# Altium footprint library Own_lib.PcbLib: 52 footprints (part 3 of 4)
Each footprint in its own frame and in the unit in brackets; x right, y up, seen from the top. Pads: shape width x height; smd on the part's side, far side on the other; paste and mask are expansions set on the pad; w line width, h text height; cw(c..) or ccw(c..) is an arc to the next point about the centre after c.
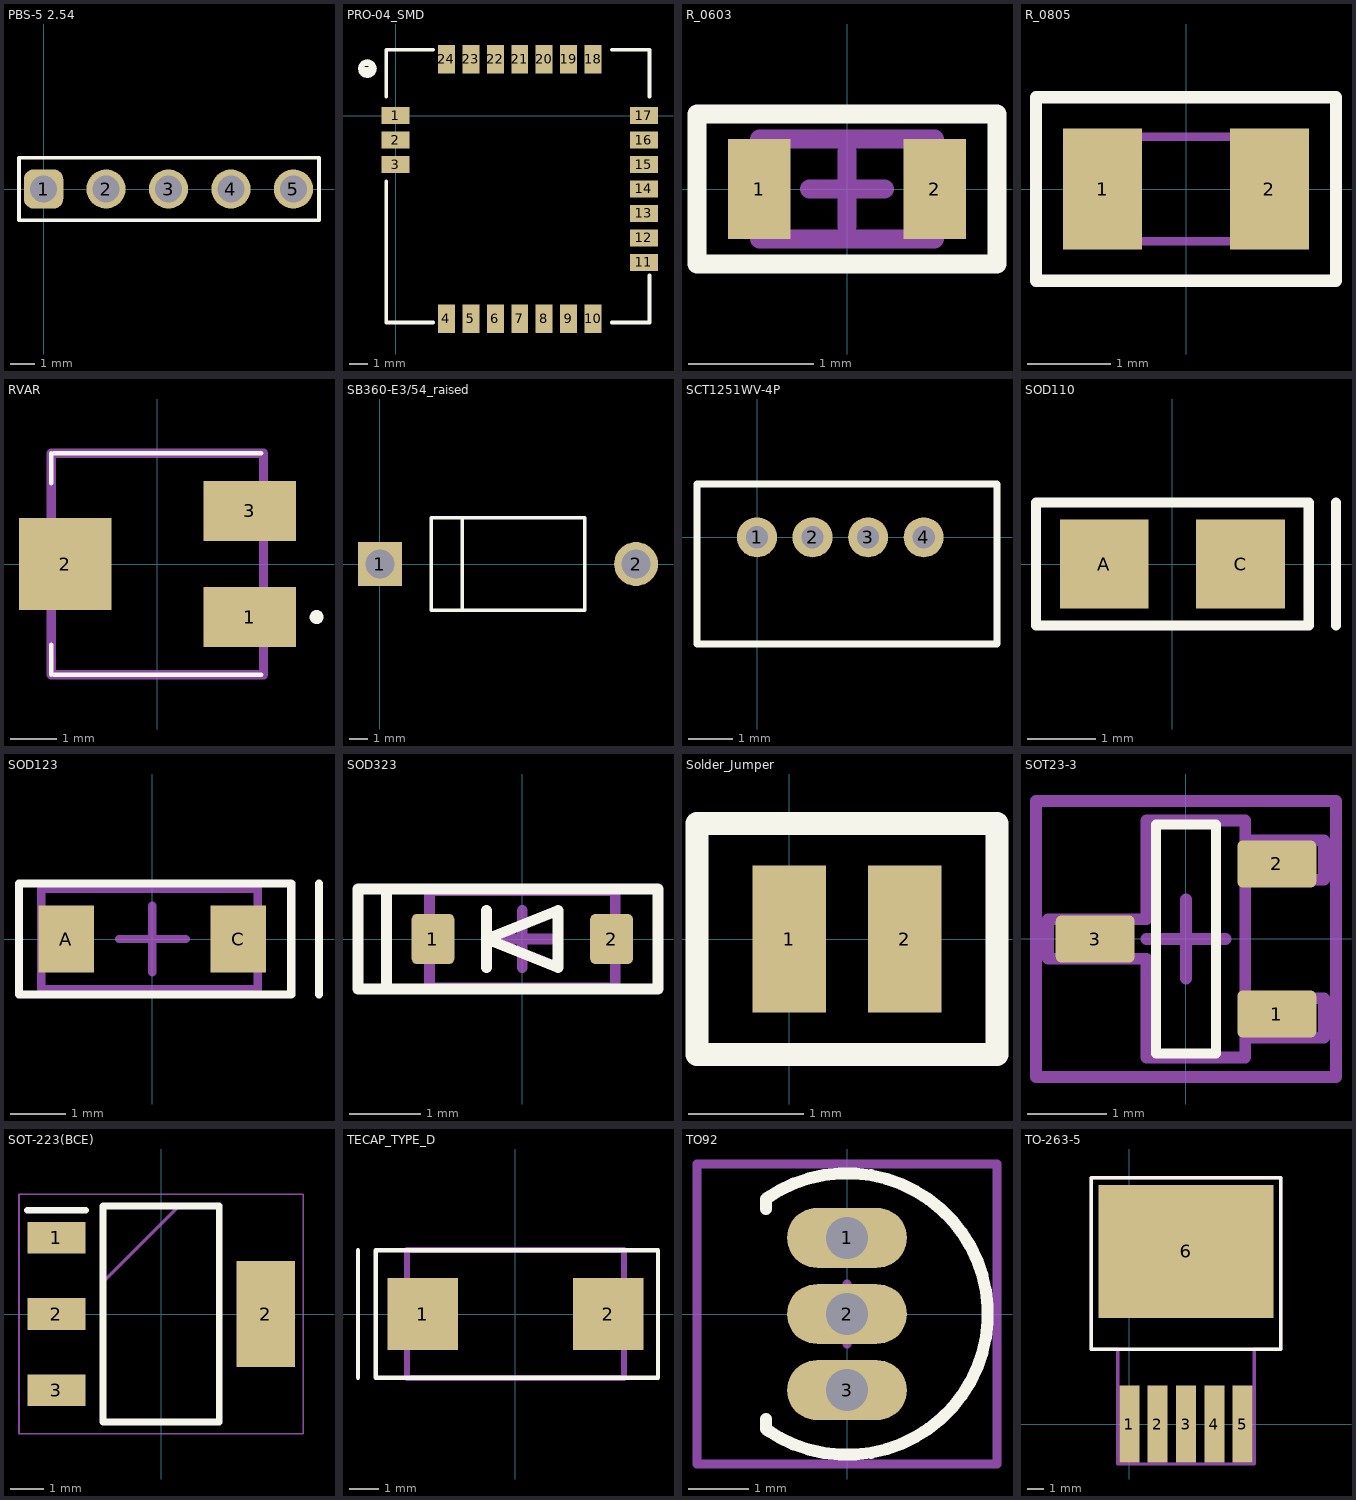
[diagram p2: the footprints below, top view; thin cyan lines are the x and y axes]

## PBS-5 2.54 [mm]
pads (5):
  rrect50% 1.6x1.6 hole 1.1: 1(0,0)
  round 1.6 hole 1.1: 2(2.54,0) 3(5.08,0) 4(7.62,0) 5(10.16,0)
Top Overlay:
  lines w0.15: -1,-1.27 -1,1.27 11.2,1.27 11.2,-1.27 -1,-1.27
3D body: height 4.3, standoff 0, extent -0.999,-1.269 11.2,1.269

## PRO-04_SMD [mm]
pads (25):
  rect 1.5x0.9 smd: 1(0,0) 2(0,-1.3) 3(0,-2.6) 11(13.2,-7.8) 12(13.2,-6.5) 13(13.2,-5.2) 14(13.2,-3.9) 15(13.2,-2.6) 16(13.2,-1.3) 17(13.2,0)
  rect 0.9x1.5 smd: 4(2.7,-10.8) 5(4,-10.8) 6(5.3,-10.8) 7(6.6,-10.8) 8(7.9,-10.8) 9(9.2,-10.8) 10(10.5,-10.8) 18(10.5,3) 19(9.2,3) 20(7.9,3) 21(6.6,3) 22(5.3,3) 23(4,3) 24(2.7,3)
  round 1 on Top Overlay: -(-1.5,2.5)
Top Overlay:
  lines w0.2: -0.5,-3.5 -0.5,-11 2,-11 ; -0.5,1 -0.5,3.5 2,3.5 ; 11.5,-11 13.5,-11 13.5,-8.5 ; 11.5,3.5 13.5,3.5 13.5,1
3D body: height 1.8, standoff 0, extent -0.5,-11 13.5,3.5

## R_0603 [mm]
pads (2):
  rect 0.5x0.8 smd: 1(-0.7,0) 2(0.7,0)
Top Overlay:
  lines w0.15: -1.2,-0.6 -1,-0.6 1,-0.6 1.2,-0.6 1.2,0.6 1,0.6 -1,0.6 -1.2,0.6 -1.2,-0.6
Top 3D Body:
  lines w0.15: -0.3,0 0.3,0 ; 0,-0.3 0,0.3 ; -0.7,-0.4 0.7,-0.4 0.7,0.4 -0.7,0.4 -0.7,-0.4
3D body: height 0.45, standoff 0, extent -0.7,-0.41 -0.5,0.41
3D body: height 0.45, standoff 0, extent 0.5,-0.41 0.7,0.41
3D body: height 0.45, standoff 0, extent -0.5,-0.41 0.5,0.41

## R_0805 [mm]
pads (2):
  rect 0.95x1.45 smd: 1(-1,0) 2(1,0)
Top Overlay:
  lines w0.15: -1.8,-1.1 1.8,-1.1 1.8,1.1 -1.8,1.1 -1.8,-1.1
Mechanical 13:
  lines w0.1: -1.025,-0.625 1.025,-0.625 1.025,0.625 -1.025,0.625 -1.025,-0.625
3D body "CRCW08051R20JNEA.stp": height 0.5, standoff 0, extent -1.025,-0.625 1.025,0.625

## RVAR [mm]
pads (3):
  rect 2x1.3 smd: 1(2,-1.15) 3(2,1.15)
  rect 2x2 smd: 2(-2,0)
Top Overlay:
  lines w0.1: -2.3,-2.4 -2.3,-1.75 -2.3,-2.4 ; -2.3,1.75 -2.3,2.4 -2.3,1.75 ; -2.25,-2.4 2.25,-2.4 -2.25,-2.4 ; -2.25,2.4 2.25,2.4 -2.25,2.4
  lines w0.2: 3.4,-1.15 ccw(c3.45,-1.15) 3.5,-1.15 ; 3.4,-1.15 cw(c3.45,-1.15) 3.5,-1.15 ; 3.4,-1.15 ccw(c3.45,-1.135) 3.5,-1.15
Mechanical 13:
  lines w0.2: -2.3,-2.4 2.3,-2.4 2.3,2.4 -2.3,2.4 -2.3,-2.4
3D body "3224J-1-101E.stp": height 3.81, standoff 0, extent -2.8,-2.4 2.87,2.4

## SB360-E3/54_raised [mm]
pads (2):
  rect 2.4x2.4 hole 1.6: 1(0,0)
  round 2.4 hole 1.6: 2(14,0)
Top Overlay:
  lines w0.2: 4.5,-2.525 4.5,2.525 ; 2.8,-2.525 11.2,-2.525 11.2,2.525 2.8,2.525 2.8,-2.525
3D body: height 6.1, standoff 4.5, extent 11.2,-0.8 14.8,0.8
3D body: height 6.1, standoff 4.5, extent -0.8,-0.8 2.8,0.8
3D body: height 5.3, standoff 0, extent 13.2,-0.8 14.8,0.8
3D body: height 5.3, standoff 0, extent -0.8,-0.8 0.8,0.8
3D body: height 8.9, standoff 3.9, extent 2.8,-2.5 11.2,2.5

## SCT1251WV-4P [mm]
pads (4):
  round 0.9 hole 0.5: 1(0,0) 2(1.25,0) 3(2.5,0) 4(3.75,0)
Top Overlay:
  lines w0.15: -1.35,-2.4 5.4,-2.4 5.4,1.2 -1.35,1.2 -1.35,-2.4
3D body: height 4.8, standoff 0, extent -1.35,-2.4 5.4,1.2

## SOD110 [mm]
pads (2):
  rect 1.3x1.3 smd: A(-1,0) C(1,0)
Top Overlay:
  lines w0.15: -1.725,0.9 1.7,0.9 2,0.9 2,-0.9 1.7,-0.9 -1.75,-0.9 -2,-0.9 -2,0.9 -1.4,0.9 ; 2.4,-0.9 2.4,0.9
3D body "SOD110.STEP": height 1.7, standoff 0, extent -1.05,-0.65 1.05,0.65

## SOD123 [mm]
pads (2):
  rect 1x1.2 smd: A(-1.55,0) C(1.55,0)
Top Overlay:
  lines w0.15: 3,-1 3,1 ; -2.4,-1 2.5,-1 2.5,1 -2,1 -2.4,1 -2.4,-1
Top 3D Body:
  lines w0.15: -0.6,0 0.6,0 ; 0,-0.6 0,0.6 ; -2,-0.9 -2,0.9 1.9,0.9 1.9,-0.9 -2,-0.9
3D body "sod_123.stp": height 1.22, standoff -0.03, extent -1.929,-0.9 1.929,0.9

## SOD323 [mm]
pads (2):
  rrect25% 0.6x0.7 smd: 1(-1.25,0) 2(1.25,0)
Top Overlay:
  lines w0.15: -0.9,0.7 0.9,0.7 ; -0.5,-0.4 -0.5,0.4 ; -1.9,-0.7 -2.3,-0.7 -2.3,0.7 -1.878,0.7 ; -1.9,-0.7 -1.9,0.678 -1.878,0.7 ; -1.9,-0.7 -0.9,-0.7 0.9,-0.7 1.9,-0.7 1.9,0.7 0.9,0.7 ; -1.878,0.7 0.9,0.7 ; -0.5,0 0.5,0.4 0.5,-0.4 -0.5,0
Top 3D Body:
  lines w0.15: -0.4,0 0.4,0 ; 0,-0.4 0,0.4 ; -1.3,-0.682 -1.3,0.678 1.3,0.678 1.3,-0.682 -1.3,-0.682
3D body "SOD323.STEP": height 1.1, standoff 0, extent -1.3,-0.675 1.3,0.675

## Solder_Jumper [mm]
pads (2):
  rect 0.635x1.27 smd: 1(0,0) 2(1,0)
Top Overlay:
  lines w0.2: -0.8,-1 1.8,-1 1.8,1 -0.8,1 -0.8,0.2 -0.8,-1

## SOT23-3 [mm]
pads (3):
  rrect25% 1x0.6 smd: 1(1.15,-0.95) 2(1.15,0.95) 3(-1.15,0)
Top Overlay:
  lines w0.127: -0.381,-1.45 0.381,-1.45 0.381,1.45 -0.381,1.45 -0.381,-1.45
  text "." at 1.5,-1.75 h0.1
Top 3D Body:
  lines w0.15: -1.75,-0.25 -1.75,0.25 -0.5,0.25 -0.5,1.5 0.75,1.5 0.75,1.25 1.75,1.25 1.75,0.75 0.75,0.75 0.75,-0.5 0.75,-0.75 1.75,-0.75 1.75,-1.25 0.75,-1.25 0.75,-1.5 -0.5,-1.5 -0.5,-0.25 -1.75,-0.25
Mechanical 15:
  lines w0.15: -0.5,0 0.5,0 ; 0,-0.5 0,0.5 ; -1.9,-1.75 -1.9,1.75 1.9,1.75 1.9,-1.75 -1.9,-1.75
3D body "SOT23-3.STEP": height 1.29, standoff -0.01, extent -1.4,-1.45 1.4,1.45

## SOT-223(BCE) [mm]
pads (4):
  rect 1.75x0.95 smd: 1(-3.15,2.3) 2(-3.15,0) 3(-3.15,-2.3)
  rect 1.75x3.2 smd: 2(3.15,0)
Top Overlay:
  lines w0.2: -4.025,3.125 -2.275,3.125 ; -1.75,-3.25 1.75,-3.25 1.75,3.25 -1.75,3.25 -1.75,-3.25
Mechanical 13:
  lines w0.1: -1.75,0.95 0.55,3.25 ; -1.75,-3.25 1.75,-3.25 1.75,3.25 -1.75,3.25 -1.75,-3.25
Mechanical 15:
  lines w0.05: -4.275,-3.6 4.275,-3.6 4.275,3.6 -4.275,3.6 -4.275,-3.6
3D body "LM317AEMP.stp": height 1.68, standoff 0, extent -3.5,-3.25 3.5,3.25

## TECAP_TYPE_D [mm]
pads (2):
  rect 2.37x2.43 smd: 1(-3.12,0) 2(3.12,0)
Top Overlay:
  lines w0.15: -5.3,-2.15 -5.3,2.15 ; -4.7,-2.15 -4.7,2.15 -3.65,2.15 3.65,2.15 4.8,2.15 4.8,-2.15 3.65,-2.15 -3.65,-2.15 -4.7,-2.15
Mechanical 13:
  lines w0.2: -3.65,-2.15 -3.65,2.15 3.65,2.15 3.65,-2.15 -3.65,-2.15
3D body "T520D687M003AME040.stp": height 3.1, standoff 0, extent -3.794,-2.345 3.806,2.255

## TO92 [mm]
pads (3):
  oval 2x1 hole 0.7: 1(0,1.27) 2(0,0) 3(0,-1.27)
Top Overlay:
  lines w0.2: -1.35,-1.75 -1.35,-1.92 ccw(c0,0) -1.35,1.92 -1.35,1.75
Mechanical 15:
  lines w0.15: -2.5,-2.5 -2.5,2.5 2.5,2.5 2.5,-2.5 -2.5,-2.5 ; -0.5,0 0.5,0 -0.5,0 ; 0,-0.5 0,0.5 0,-0.5
3D body "TO-92.STEP": height 7, standoff -3, extent -1.501,-2.499 2.5,2.499

## TO-263-5 [mm]
pads (6):
  rect 1.2x4.6 smd: 1(0,0) 2(1.7,0) 3(3.4,0) 4(5.1,0) 5(6.8,0)
  rect 10.5x8 smd: 6(3.4,10.367)
Top Overlay:
  lines w0.2: -2.3,4.5 -2.3,14.8 9.1,14.8 9.1,4.5 -2.3,4.5
Top Courtyard:
  lines w0.2: -2.3,4.5 -0.7,4.5 -0.7,-2.4 7.5,-2.4 7.5,4.5 9.1,4.5 9.1,14.8 -2.3,14.8 -2.3,4.5
3D body: height 4.4, standoff -0.1, extent -2,4.8 8.8,13.2
3D body: height 1, standoff -0.1, extent -2,13.2 8.8,14.5
3D body: height 1.7, standoff -0.1, extent -0.5,-1.1 0.5,4.8
3D body: height 1.7, standoff -0.1, extent 1.2,-1.1 2.2,4.8
3D body: height 1.7, standoff -0.1, extent 2.9,-1.1 3.9,4.8
3D body: height 1.7, standoff -0.1, extent 4.6,-1.1 5.6,4.8
3D body: height 1.7, standoff -0.1, extent 6.3,-1.1 7.3,4.8